# Altium footprint library TCM.PcbLib: 42 footprints (part 2 of 3)
Each footprint in its own frame and in the unit in brackets; x right, y up, seen from the top. Pads: shape width x height; smd on the part's side, far side on the other; paste and mask are expansions set on the pad; w line width, h text height; cw(c..) or ccw(c..) is an arc to the next point about the centre after c.
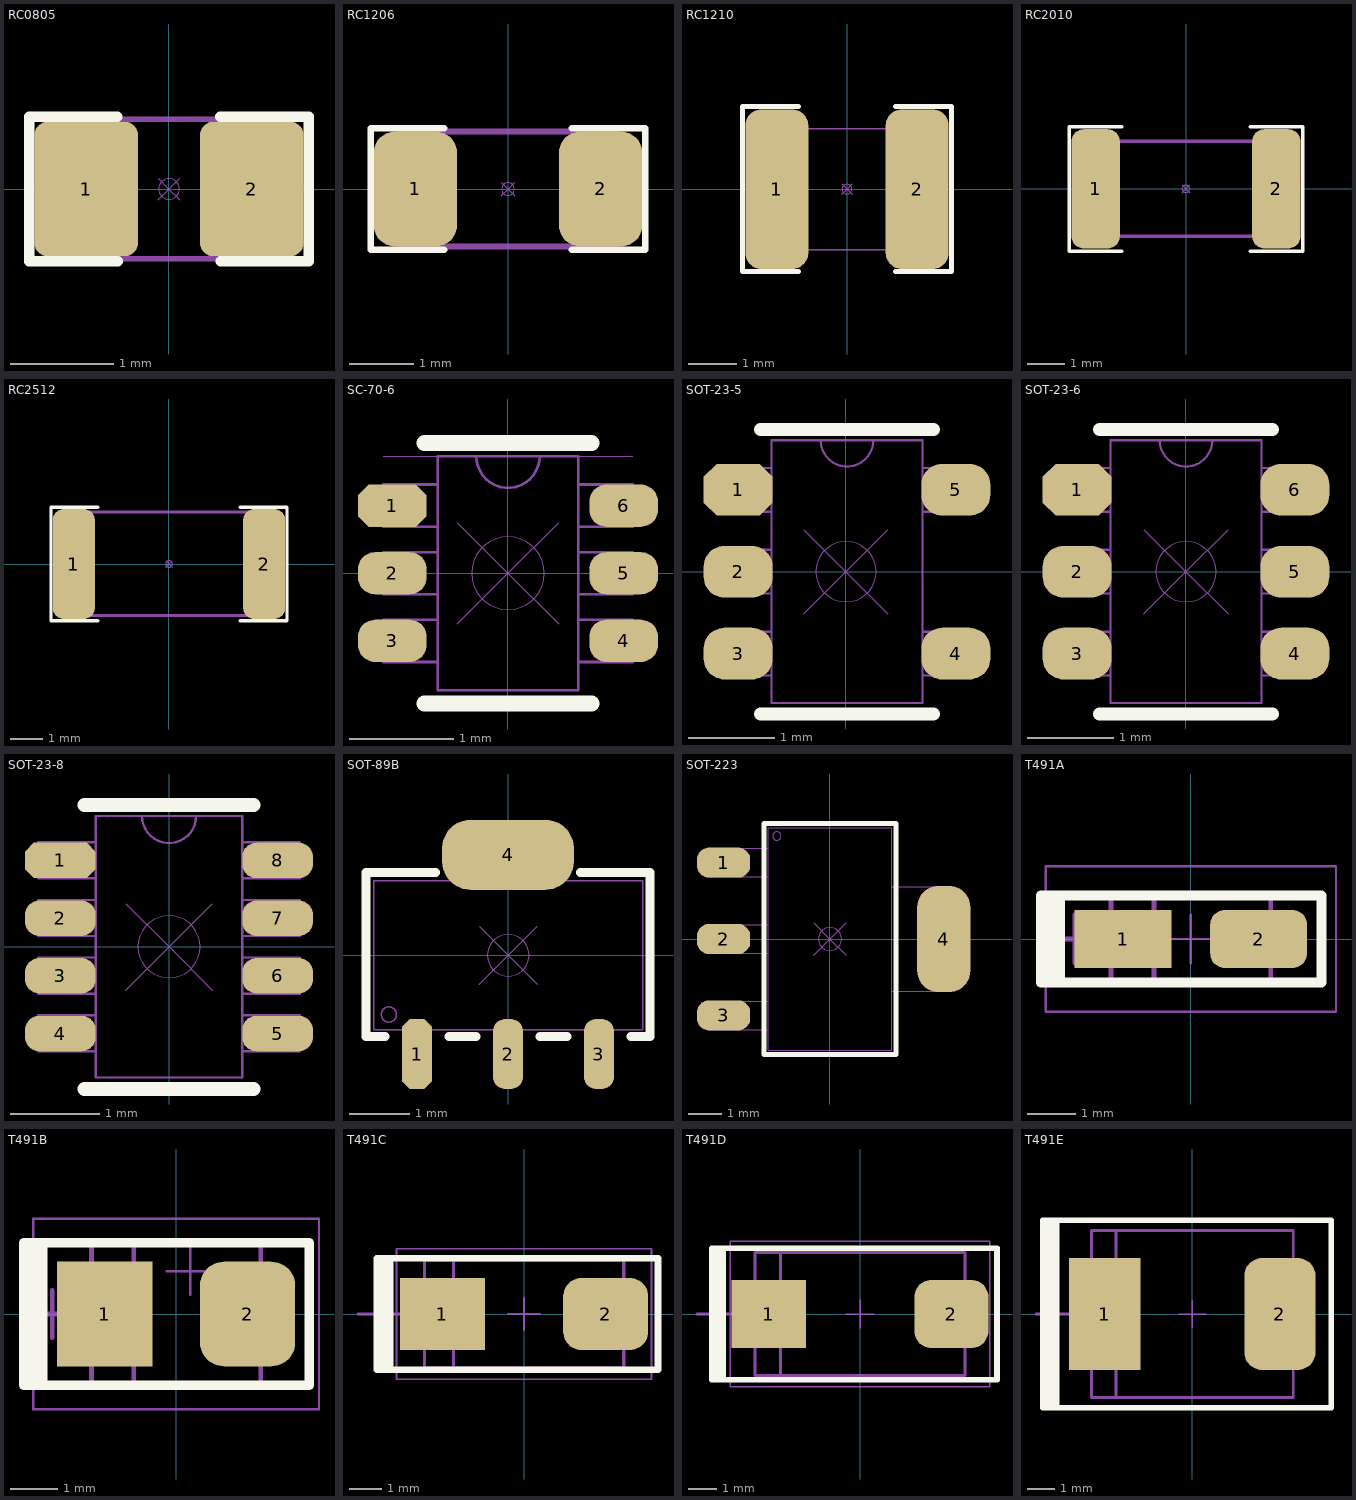
[diagram p1: the footprints below, top view; thin cyan lines are the x and y axes]

## RC0805 [mm] "Chip Resistor, Body 2.0x1.3mm, IPC High Density"
height 0.65
pads (2):
  rrect25% 1x1.3 smd mask+0: 1(-0.8,0) 2(0.8,0)
Top Overlay:
  lines w0.1: -0.499,0.7 -1.35,0.7 -1.35,-0.7 -0.496,-0.7 ; 0.496,0.7 1.35,0.7 1.35,-0.7 0.499,-0.7
  text ".Designator" at -0.749,-1.143 h0.45
Mechanical 13:
  lines w0.01: -0.106,-0.106 0,0 ; -0.106,0.106 0,0 ; 0.106,-0.106 0,0 ; 0.106,0.106 0,0 ; 0.1,0 ccw(c0,0) 0.1,0
  lines w0.05: -1.15,-0.675 1.15,-0.675 1.15,0.675 -1.15,0.675 -1.15,-0.675
  text ".Designator" at -0.75,-1.15 h0.45
3D body "RC0805.STEP": height 0.76, standoff 0, extent -1.15,-0.675 1.15,0.675

## RC1206 [mm] "Chip Resistor, Body 3.2x1.6mm, IPC Medium Density"
height 0.71
pads (2):
  rrect50% 1.3x1.8 smd mask+0: 1(-1.45,0) 2(1.45,0)
Top Overlay:
  lines w0.1: -1,-0.95 -2.15,-0.95 -2.15,0.95 -1,0.95 ; 1,-0.95 2.15,-0.95 2.15,0.95 1,0.95
  text ".Designator" at -0.75,-1.3 h0.45
Mechanical 13:
  lines w0.01: -0.106,-0.106 0,0 ; -0.106,0.106 0,0 ; 0.106,-0.106 0,0 ; 0.106,0.106 0,0 ; 0.1,0 ccw(c0,0) 0.1,0
  lines w0.1: -1.7,-0.9 -1.7,0.9 1.7,0.9 1.7,-0.9 -1.7,-0.9
  text ".Designator" at -0.744,-1.289 h0.45
3D body "RC1206.stp": height 0.85, standoff 0, extent -1.675,-0.865 1.675,0.865

## RC1210 [mm] "Chip Resistor, Body 3.2x2.5mm, IPC Medium Density"
height 0.71
pads (2):
  rrect50% 1.3x3.3 smd mask+0: 1(-1.45,0) 2(1.45,0)
Top Overlay:
  lines w0.1: -1,-1.704 -2.157,-1.704 -2.157,1.709 -1,1.709 ; 1,-1.704 2.157,-1.704 2.157,1.709 1,1.709
  text ".Designator" at -0.743,-1.616 h0.45
Mechanical 13:
  lines w0.01: -0.106,-0.106 0,0 ; -0.106,0.106 0,0 ; 0.106,-0.106 0,0 ; 0.106,0.106 0,0 ; 0.1,0 ccw(c0,0) 0.1,0
  lines w0.03: -1.6,-1.25 -1.6,1.25 1.6,1.25 1.6,-1.25 -1.6,-1.25
  text ".Designator" at -0.751,-1.619 h0.45
3D body "RC1210.STEP": height 0.55, standoff 0, extent -1.598,-1.25 1.602,1.25

## RC2010 [mm] "Chip Resistor, Body 5.3x2.5mm, IPC Medium Density."
height 0.55
pads (2):
  rrect50% 1.3x3.2 smd mask+0: 1(-2.425,0) 2(2.425,0)
Top Overlay:
  lines w0.1: -1.723,-1.678 -3.133,-1.678 -3.133,1.669 -1.723,1.669 ; 1.723,-1.678 3.133,-1.678 3.133,1.669 1.723,1.669
  text ".Designator" at -0.743,-1.615 h0.45
Mechanical 13:
  lines w0.01: -0.106,-0.106 0,0 ; -0.106,0.106 0,0 ; 0.106,-0.106 0,0 ; 0.106,0.106 0,0 ; 0.1,0 ccw(c0,0) 0.1,0
  lines w0.1: -2.525,-1.275 -2.525,1.275 2.525,1.275 2.525,-1.275 -2.525,-1.275
  text ".Designator" at -0.751,-1.619 h0.45
3D body "RC2010.stp": height 0.47, standoff 0, extent -2.5,-1.251 2.5,1.251

## RC2512 [mm] "Chip Resistor, Body 6.3x3.2mm, IPC Medium Density"
height 0.71
pads (2):
  rrect50% 1.3x3.4 smd mask+0: 1(-2.95,0) 2(2.95,0)
Top Overlay:
  lines w0.1: -3.659,-1.758 -2.2,-1.758 ; -3.659,-1.756 -3.659,1.758 -2.2,1.758 ; 2.2,-1.758 3.659,-1.758 ; 2.2,1.758 3.659,1.758 3.659,-1.756
  text ".Designator" at -0.775,-2.05 h0.45
Mechanical 13:
  lines w0.01: -0.106,-0.106 0,0 ; -0.106,0.106 0,0 ; 0.106,-0.106 0,0 ; 0.106,0.106 0,0 ; 0.1,0 ccw(c0,0) 0.1,0
  lines w0.1: -3.199,-1.6 -3.199,1.608 3.201,1.608 3.201,-1.6 -3.199,-1.6
  text ".Designator" at -0.725,-2.025 h0.45
3D body "RC2512.STEP": height 0.6, standoff 0, extent -3.2,-1.6 3.2,1.6

## SC-70-6 [mil]
pads (6):
  oct 26x16 smd paste+0 mask+0: 1(-43.8,25.59)
  rrect80% 26x16 smd paste+0 mask+0: 2(-43.8,0) 3(-43.8,-25.59) 4(43.8,-25.59) 5(43.8,0) 6(43.8,25.59)
Top Overlay:
  lines w6: -31.57,-49.29 31.58,-49.29 ; -31.57,49.29 31.58,49.29
  text ".Designator" at -82.5,-85 h50
Mechanical 13:
  lines w0.39: -47.24,44.29 47.25,44.29 ; -19.19,-19.19 0,0 ; -19.19,19.19 0,0 ; 19.19,-19.19 0,0 ; 19.19,19.19 0,0 ; 13.78,0 ccw(c0,0) 13.78,0
  lines w1: -12,44.29 ccw(c0,44.29) 12,44.29 ; -47.24,-33.59 -26.57,-33.59 -26.57,-17.59 -47.24,-17.59 -47.24,-33.59 ; -47.24,-8 -26.57,-8 -26.57,8 -47.24,8 -47.24,-8 ; -47.24,17.59 -26.57,17.59 -26.57,33.59 -47.24,33.59 -47.24,17.59 ; -26.57,-44.29 -26.57,44.29 26.58,44.29 26.58,-44.29 -26.57,-44.29 ; 26.58,-33.59 47.25,-33.59 47.25,-17.59 26.58,-17.59 26.58,-33.59 ; 26.58,-8 47.25,-8 47.25,8 26.58,8 26.58,-8 ; 26.58,17.59 47.25,17.59 47.25,33.59 26.58,33.59 26.58,17.59
  text ".Designator" at -82.5,-85 h50
3D body "SC70-6_MC_MCH.step": height 43.43, standoff 0, extent -47.24,-44.29 47.25,44.29

## SOT-23-5 [mm]
pads (5):
  oct 0.8x0.6 smd paste+0 mask+0: 1(-1.25,0.95)
  rrect80% 0.8x0.6 smd paste+0 mask+0: 2(-1.25,0) 3(-1.25,-0.95) 4(1.275,-0.95) 5(1.275,0.95)
Top Overlay:
  lines w0.152: -0.991,-1.651 1.016,-1.651 ; -0.991,1.651 1.016,1.651
  text ".Designator" at -2.147,-2.54 h1.27
Mechanical 13:
  lines w0.01: -0.487,-0.487 0,0 ; -0.487,0.487 0,0 ; 0.487,-0.487 0,0 ; 0.487,0.487 0,0 ; 0.35,0 ccw(c0,0) 0.35,0
  lines w0.025: -0.292,1.524 ccw(c0.012,1.524) 0.317,1.524 ; 0.889,-0.254 0.889,0.254 ; -1.486,-1.204 -0.864,-1.204 -0.864,-0.696 -1.486,-0.696 -1.486,-1.204 ; -1.486,-0.254 -0.864,-0.254 -0.864,0.254 -1.486,0.254 -1.486,-0.254 ; -1.486,0.696 -0.864,0.696 -0.864,1.204 -1.486,1.204 -1.486,0.696 ; -0.864,-1.524 -0.864,1.524 0.889,1.524 0.889,-1.524 -0.864,-1.524 ; 0.889,-1.204 1.511,-1.204 1.511,-0.696 0.889,-0.696 0.889,-1.204 ; 0.889,0.696 1.511,0.696 1.511,1.204 0.889,1.204 0.889,0.696
  text ".Designator" at -2.147,-2.54 h1.27
3D body "DBV5.step": height 1.45, standoff 0, extent -1.499,-1.524 1.499,1.524

## SOT-23-6 [mm]
pads (6):
  oct 0.8x0.6 smd paste+0 mask+0: 1(-1.262,0.95)
  rrect80% 0.8x0.6 smd paste+0 mask+0: 2(-1.262,0) 3(-1.262,-0.95) 4(1.262,-0.95) 5(1.262,0) 6(1.262,0.95)
Top Overlay:
  lines w0.152: -1.003,-1.651 1.003,-1.651 ; -1.003,1.651 1.003,1.651
  text ".Designator" at -2.159,-2.54 h1.27
Mechanical 13:
  lines w0.01: -0.487,-0.487 0,0 ; -0.487,0.487 0,0 ; 0.487,-0.487 0,0 ; 0.487,0.487 0,0 ; 0.35,0 ccw(c0,0) 0.35,0
  lines w0.025: -0.305,1.524 ccw(c0,1.524) 0.305,1.524 ; -1.499,-1.204 -1.499,-0.696 -0.876,-0.696 -0.876,-1.204 -1.499,-1.204 ; -1.499,-0.254 -1.499,0.254 -0.876,0.254 -0.876,-0.254 -1.499,-0.254 ; -1.499,0.696 -1.499,1.204 -0.876,1.204 -0.876,0.696 -1.499,0.696 ; -0.876,-1.524 0.876,-1.524 0.876,1.524 -0.876,1.524 -0.876,-1.524 ; 0.876,-1.204 0.876,-0.696 1.499,-0.696 1.499,-1.204 0.876,-1.204 ; 0.876,-0.254 0.876,0.254 1.499,0.254 1.499,-0.254 0.876,-0.254 ; 0.876,0.696 0.876,1.204 1.499,1.204 1.499,0.696 0.876,0.696
  text ".Designator" at -2.159,-2.54 h1.27
3D body "SOT_BVRQ1_TEX.step": height 1.09, standoff 0, extent -1.499,-1.524 1.499,1.524

## SOT-23-8 [mm]
pads (8):
  oct 0.798x0.4 smd paste+0 mask+0: 1(-1.225,0.972)
  rrect80% 0.798x0.4 smd paste+0 mask+0: 2(-1.225,0.322) 3(-1.225,-0.328) 4(-1.225,-0.978) 5(1.224,-0.978) 6(1.224,-0.328) 7(1.224,0.322) 8(1.224,0.972)
Top Overlay:
  lines w0.152: -0.953,-1.603 0.952,-1.603 ; -0.953,1.598 0.952,1.598
  text ".Designator" at -2.03,-2.561 h1.27
Mechanical 13:
  lines w0.01: -0.487,-0.487 0,0 ; -0.487,0.487 0,0 ; 0.487,-0.487 0,0 ; 0.487,0.487 0,0 ; 0.35,0 ccw(c0,0) 0.35,0
  lines w0.025: -0.305,1.473 ccw(c0,1.473) 0.305,1.473 ; -1.473,-1.178 -1.473,-0.772 -0.826,-0.772 -0.826,-1.178 -1.473,-1.178 ; -1.473,-0.528 -1.473,-0.122 -0.826,-0.122 -0.826,-0.528 -1.473,-0.528 ; -1.473,0.122 -1.473,0.528 -0.826,0.528 -0.826,0.122 -1.473,0.122 ; -1.473,0.772 -1.473,1.178 -0.826,1.178 -0.826,0.772 -1.473,0.772 ; -0.826,-1.473 0.826,-1.473 0.826,1.473 -0.826,1.473 -0.826,-1.473 ; 0.826,-1.178 0.826,-0.772 1.473,-0.772 1.473,-1.178 0.826,-1.178 ; 0.826,-0.528 0.826,-0.122 1.473,-0.122 1.473,-0.528 0.826,-0.528 ; 0.826,0.122 0.826,0.528 1.473,0.528 1.473,0.122 0.826,0.122 ; 0.826,0.772 0.826,1.178 1.473,1.178 1.473,0.772 0.826,0.772
  text ".Designator" at -2.03,-2.556 h1.27
3D body "SOT_62IDDFR_TEX.step": height 1.09, standoff 0, extent -1.474,-1.476 1.472,1.47

## SOT-89B [mil]
pads (4):
  oct 19.68x46 smd paste+0 mask+0: 1(-60,-65)
  rrect80% 19.68x46 smd paste+0 mask+0: 2(-0.16,-65) 3(59.69,-65)
  rrect80% 86.61x46 smd paste+0 mask+0: 4(-0.16,66)
Top Overlay:
  lines w6: -81.1,-53.5 -93.66,-53.5 -93.66,54.5 -47.76,54.5 ; -38.9,-53.5 -21.26,-53.5 ; 20.94,-53.5 38.59,-53.5 ; 47.44,54.5 93.34,54.5 93.34,-53.5 80.78,-53.5
  text ".Designator" at -85,-125.76 h50
Mechanical 13:
  circle w1: c-78.5,-39 r5
  lines w0.39: -19.19,-19.19 0,0 ; -19.19,19.19 0,0 ; 19.19,-19.19 0,0 ; 19.19,19.19 0,0 ; 13.78,0 ccw(c0,0) 13.78,0
  lines w1: -88.5,-49 -88.5,49 88.5,49 88.5,-49 -88.5,-49 ; -67.84,-82.5 -51.84,-82.5 -51.84,-49 -67.84,-49 -67.84,-82.5 ; -34.5,49 -34.5,82.5 34.5,82.5 34.5,49 -34.5,49 ; -8,-82.5 8,-82.5 8,-49 -8,-49 -8,-82.5 ; 51.84,-82.5 67.84,-82.5 67.84,-49 51.84,-49 51.84,-82.5
  text ".Designator" at -85.02,-125.47 h50
3D body "SOT-89B_HNW.step": height 51.1, standoff 0, extent -88.66,-82.02 88.35,83.02

## SOT-223 [mil]
pads (4):
  rrect80% 63x36 smd paste+0 mask+0: 1(-126,90.55) 2(-126,0) 3(-126,-90.55)
  rrect80% 63x126 smd: 4(134.83,0)
Top Overlay:
  lines w6: -78,-137 -78,137 78,137 78,-137 -78,-137
  text ".Designator" at -87.61,-179.12 h50
Mechanical 13:
  circle w0: c-63,122 r5
  lines w0.39: -19.19,-19.19 0,0 ; -19.19,19.19 0,0 ; 19.19,-19.19 0,0 ; 19.19,19.19 0,0 ; 13.78,0 ccw(c0,0) 13.78,0
  lines w1: -143.5,-107.55 -143.5,-73.55 -73,-73.55 -73,-107.55 -143.5,-107.55 ; -143.5,-17 -143.5,17 -73,17 -73,-17 -143.5,-17 ; -143.5,73.55 -143.5,107.55 -73,107.55 -73,73.55 -143.5,73.55 ; -73,-132 -73,132 73,132 73,-132 -73,-132 ; 73,-62 73,62 143.5,62 143.5,-62 73,-62
  text ".Designator" at -87.34,-179.28 h50
3D body "SOT-223_STM.step": height 71.1, standoff 0, extent -143.5,-132.01 143.5,132.01

## T491A [mm] "Capacitor, SM Tantalum; Body 3.2 x 1.6 mm (LxW typ)"
height 1.8
pads (2):
  rect 2x1.2 smd: 1(-1.4,0)
  rrect50% 2x1.2 smd: 2(1.4,0)
Top Overlay:
  rectangle: -3.2,-0.9 -2.6,0.9
  lines w0.2: -3.1,-0.9 2.7,-0.9 2.7,0.9 -3.1,0.9
Mechanical 14:
  lines w0.05: -0.5,0 0.5,0 ; 0,-0.5 0,0.5 ; -3,-1.5 3,-1.5 3,1.5 -3,1.5 -3,-1.5
Mechanical 15:
  lines w0.1: -2.9,0 -1.9,0 ; -2.4,-0.5 -2.4,0.5 ; -0.762,-0.889 -0.762,0.889 ; -1.651,-0.889 1.651,-0.889 1.651,0.889 -1.651,0.889 -1.651,-0.889
3D body "T491A.step": height 1.77, standoff -0.03, extent -1.7,-0.9 1.7,0.9

## T491B [mm] "Capacitor, SM Tantalum; Body 3.5 x 2.8 mm (LxW typ)"
height 2.1
pads (2):
  rect 2x2.2 smd: 1(-1.5,0)
  rrect50% 2x2.2 smd: 2(1.5,0)
Top Overlay:
  rectangle: -3.3,-1.5 -2.7,1.5
  lines w0.2: -3.2,-1.5 2.8,-1.5 2.8,1.5 -3.2,1.5
Mechanical 14:
  lines w0.05: -0.2,0.9 0.8,0.9 ; 0.3,0.4 0.3,1.4 ; -3,-2 -3,2 3,2 3,-2 -3,-2
Mechanical 15:
  lines w0.1: -3.1,0 -2.1,0 ; -2.6,-0.5 -2.6,0.5 ; -0.889,-1.524 -0.889,1.524 ; -1.778,-1.524 -1.778,1.524 1.778,1.524 1.778,-1.524 -1.778,-1.524
3D body "T491B.STEP": height 2.07, standoff -0.03, extent -1.85,-1.5 1.85,1.5

## T491C [mm] "Capacitor, SM Tantalum; Body 6.0 x 3.2 mm (LxW typ)"
height 2.8
pads (2):
  rect 2.6x2.2 smd: 1(-2.5,0)
  rrect50% 2.6x2.2 smd: 2(2.5,0)
Top Overlay:
  rectangle: -4.6,-1.7 -4,1.7
  lines w0.2: -4.5,-1.7 4.1,-1.7 4.1,1.7 -4.5,1.7
Mechanical 14:
  lines w0.05: -0.5,0 0.5,0 ; 0,-0.5 0,0.5 ; -3.9,-2 3.9,-2 3.9,2 -3.9,2 -3.9,-2
Mechanical 15:
  lines w0.1: -5.08,0 -3.556,0 ; -4.318,-0.762 -4.318,0.762 ; -2.159,-1.651 -2.159,1.651 ; -3.048,-1.651 3.048,-1.651 3.048,1.651 -3.048,1.651 -3.048,-1.651
3D body "T491C.STEP": height 2.77, standoff -0.03, extent -3.15,-1.75 3.15,1.75

## T491D [mm] "Capacitor, SM Tantalum; Body 7.3 x 4.3 mm (LxW typ)"
height 3.1
pads (2):
  rect 2.6x2.4 smd: 1(-3.2,0)
  rrect50% 2.6x2.4 smd: 2(3.2,0)
Top Overlay:
  rectangle: -5.3,-2.3 -4.7,2.3
  lines w0.2: -5.2,-2.3 4.8,-2.3 4.8,2.3 -5.2,2.3
Mechanical 14:
  lines w0.05: -0.5,0 0.5,0 ; 0,-0.5 0,0.5 ; -4.55,-2.55 4.55,-2.55 4.55,2.55 -4.55,2.55 -4.55,-2.55
Mechanical 15:
  lines w0.1: -5.715,0 -4.191,0 ; -4.953,-0.762 -4.953,0.762 ; -2.794,-2.159 -2.794,2.159 ; -3.683,-2.159 -3.683,2.159 3.683,2.159 3.683,-2.159 -3.683,-2.159
3D body "T491D.STEP": height 3.07, standoff -0.03, extent -3.8,-2.3 3.8,2.3

## T491E [mm] "Capacitor, SM Tantalum; Body 7.3 x 6.0 mm (LxW typ)"
height 3.8
pads (2):
  rect 2.6x4.1 smd: 1(-3.2,0)
  rrect50% 2.6x4.1 smd: 2(3.2,0)
Top Overlay:
  lines w0.2: -5.334,-3.429 -5.334,3.429 ; -5.207,-3.429 -5.207,3.429 ; -5.08,-3.429 -5.08,3.429 ; -4.953,-3.429 -4.953,3.429 ; -5.461,-3.429 5.08,-3.429 5.08,3.429 -5.461,3.429 -5.461,-3.429
Mechanical 14:
  lines w0.05: -0.5,0 0.5,0 ; 0,-0.5 0,0.5
Mechanical 15:
  lines w0.1: -5.715,0 -4.191,0 ; -4.953,-0.762 -4.953,0.762 ; -2.794,-3.048 -2.794,3.048 ; -3.683,-3.048 3.683,-3.048 3.683,3.048 -3.683,3.048 -3.683,-3.048
3D body "T491E.step": height 3.77, standoff -0.03, extent -3.8,-3.15 3.8,3.15